# Altium footprint library ModdedTSPartFootprints.PcbLib: 30 footprints (part 2 of 2)
Each footprint in its own frame and in the unit in brackets; x right, y up, seen from the top. Pads: shape width x height; smd on the part's side, far side on the other; paste and mask are expansions set on the pad; w line width, h text height; cw(c..) or ccw(c..) is an arc to the next point about the centre after c.
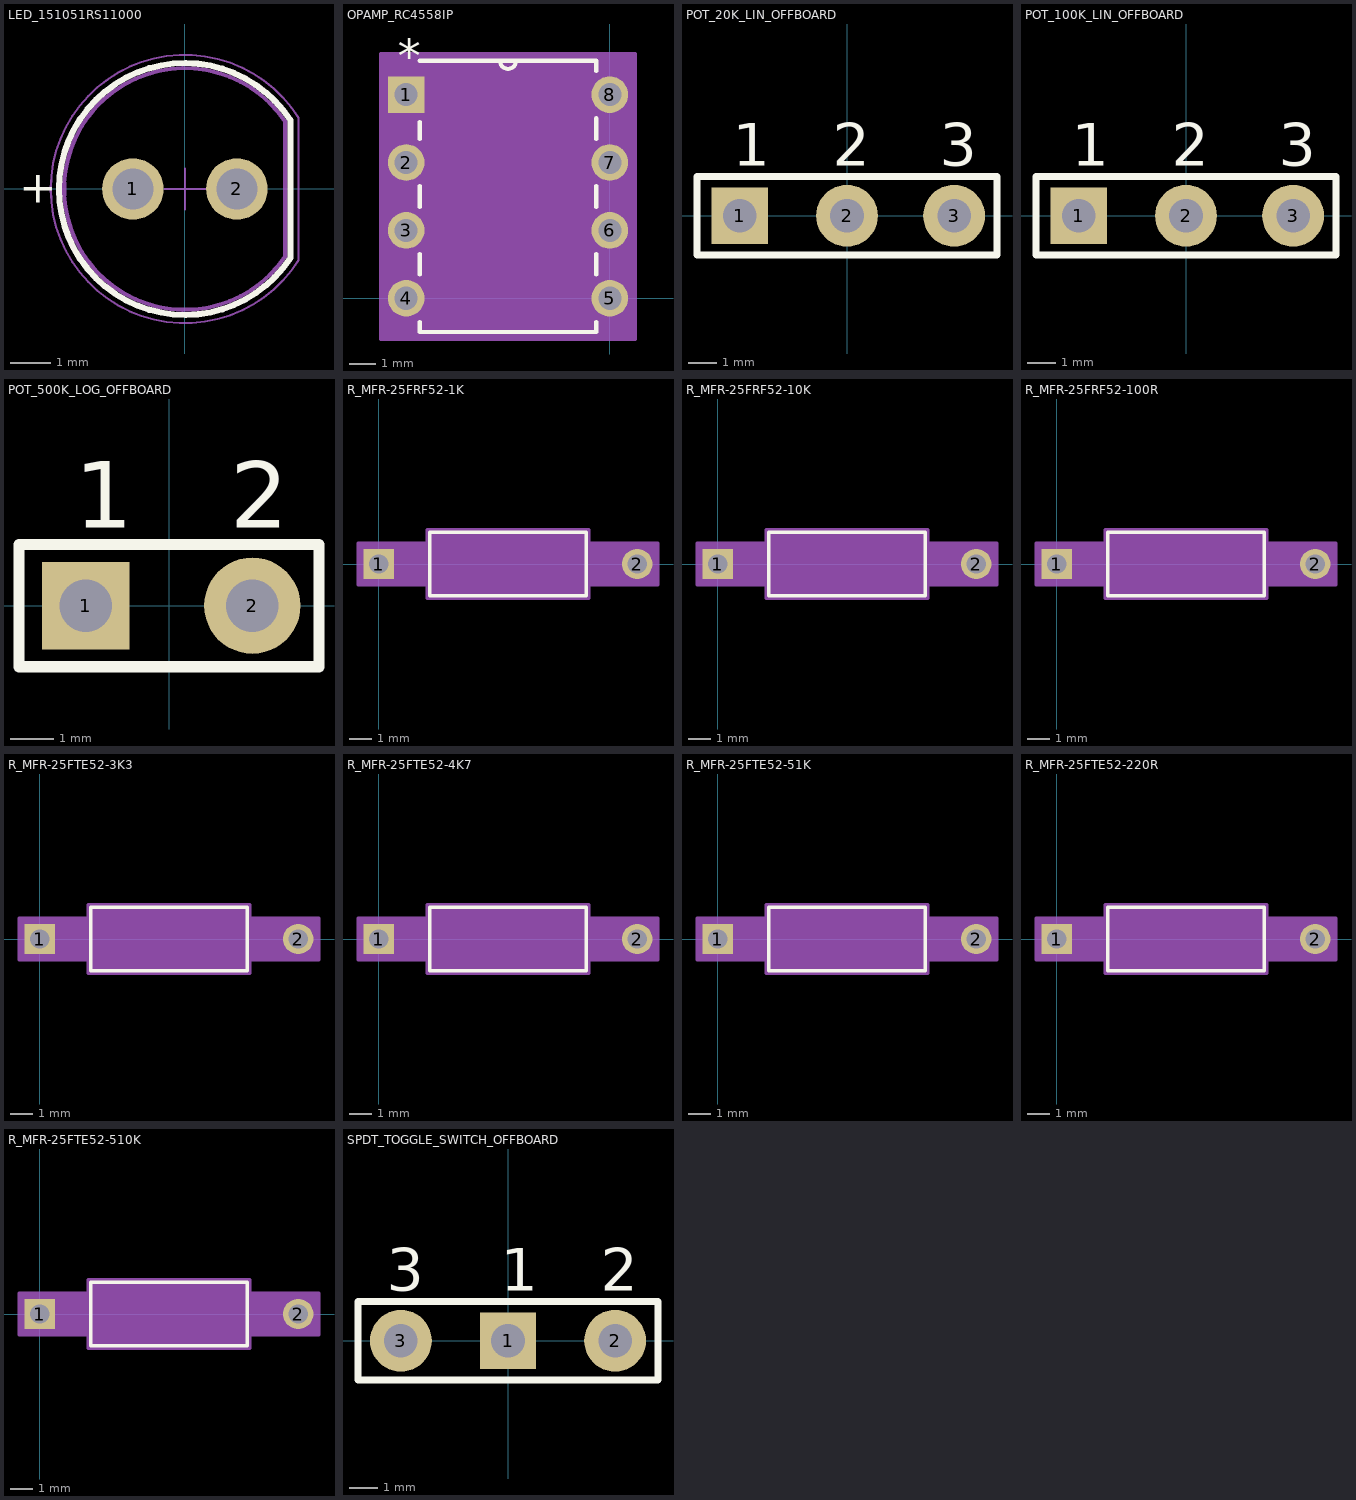
[diagram p1: the footprints below, top view; thin cyan lines are the x and y axes]

## LED_151051RS11000 [mm] "Red 645nm LED Indication - Discrete 2.1V Radial"
height 8.7
pads (2):
  round 1.5 hole 1: 1(-1.27,0) 2(1.27,0)
Top Overlay:
  lines w0.15: 2.575,-1.681 cw(c0,0) 2.575,1.681 2.575,-1.681
  text "+" at -4.05,-0.33 h0.8
Top Courtyard:
  lines w0.05: -0.5,0 0.5,0 ; 0,-0.5 0,0.5 ; 2.775,-1.74 cw(c0,0) 2.775,1.74 2.775,-1.74
Top Designator:
  text ".Designator" at -7.498,-0.5 h1.5
Top Component Outline:
  lines w0.1: 2.449,-1.644 cw(c0,0) 2.449,1.645 ; 2.45,-1.645 2.45,1.645
3D body "STEP-WL-TMRC-5mm-wos-rev1.stp": height 9.2, standoff -25.9, extent -2.95,-2.949 2.45,2.95

## OPAMP_RC4558IP [mil] "Standard (General Purpose) Amplifier 2 Circuit Differential 8-PDIP"
pads (8):
  rect 54x54 / inner round 60 / far side rect 54x54 hole 34 paste-99999 mask-27: 1(-300,300)
  round 54 / inner round 60 / far side round 54 hole 34 paste-99999 mask-27: 2(-300,200) 3(-300,100) 4(-300,0) 5(0,0) 6(0,100) 7(0,200) 8(0,300)
Top Overlay:
  lines w6: -280,-34.76 -280,-50 -20,-50 -20,-34.76 ; -280,34.76 -280,65.24 ; -280,134.76 -280,165.24 ; -280,234.76 -280,259.9 ; -280,350 -20,350 -20,334.76 ; -162,350 ccw(c-150,350) -138,350 ; -20,34.76 -20,65.24 ; -20,134.76 -20,165.24 ; -20,234.76 -20,265.24
  text ".Designator" at -237.5,125 h50
  text "*" at -312.5,332 h50
Mechanical 13:
  lines w0: -162,350 ccw(c-150,350) -138,350
  lines w1: -317,-17 -280,-17 -280,17 -317,17 -317,-17 ; -317,83 -280,83 -280,117 -317,117 -317,83 ; -317,183 -280,183 -280,217 -317,217 -317,183 ; -317,283 -280,283 -280,317 -317,317 -317,283 ; -280,-50 -280,350 -20,350 -20,-50 -280,-50 ; -20,-17 17,-17 17,17 -20,17 -20,-17 ; -20,83 17,83 17,117 -20,117 -20,83 ; -20,183 17,183 17,217 -20,217 -20,183 ; -20,283 17,283 17,317 -20,317 -20,283
  text "*" at -312.5,332 h50
Mechanical 15:
  region: 37,-60 -337,-60 -337,360 37,360
  lines w6: -337,-60 -337,360 37,360 37,-60 -337,-60
3D body "P8.step": height 205.12, standoff -100, extent -310,-50 10,350

## POT_20K_LIN_OFFBOARD [mm] "Through holes for wires to B20K, 16mm Potentiometers - 18T Knurled Shaft - Solder Lug"
pads (3):
  rect 2x2 hole 1.2: 1(-3.81,0)
  round 2.2 hole 1.2: 2(0,0) 3(3.81,0)
Top Overlay:
  lines w0.254: -5.334,-1.397 5.334,-1.397 5.334,1.397 -5.334,1.397 -5.334,-1.397
  text "1" at -4.064,1.778 h1.52
  text ".Designator" at -1.843,-1.651 h1.27
  text "2" at -0.508,1.778 h1.52
  text "3" at 3.302,1.778 h1.52

## POT_100K_LIN_OFFBOARD [mm] "Through holes for wires to B100K, 16mm Potentiometers - 18T Knurled Shaft - Solder Lug"
pads (3):
  rect 2x2 hole 1.2: 1(-3.81,0)
  round 2.2 hole 1.2: 2(0,0) 3(3.81,0)
Top Overlay:
  lines w0.254: -5.334,-1.397 -5.334,1.397 5.334,1.397 5.334,-1.397 -5.334,-1.397
  text "3" at 3.302,1.778 h1.52
  text "2" at -0.508,1.778 h1.52
  text ".Designator" at -1.843,-1.651 h1.27
  text "1" at -4.064,1.778 h1.52

## POT_500K_LOG_OFFBOARD [mm] "Through holes for wires to A500K, 16mm Potentiometers - 18T Knurled Shaft - Solder Lug"
pads (2):
  rect 2x2 hole 1.2: 1(-1.905,0)
  round 2.2 hole 1.2: 2(1.905,0)
Top Overlay:
  lines w0.254: -3.429,-1.397 -3.429,1.397 3.429,1.397 3.429,-1.397 -3.429,-1.397
  text "2" at 1.397,1.778 h1.52
  text ".Designator" at -1.843,-1.651 h1.27
  text "1" at -2.159,1.778 h1.52

## R_MFR-25FRF52-1K [mil] "1 kOhms ±1% 0.25W, 1/4W Through Hole Resistor Axial Metal Film"
pads (2):
  rect 54x54 / inner round 60 / far side rect 54x54 hole 34 paste-99999 mask+0: 1(0,0)
  round 54 / inner round 60 / far side round 54 hole 34 paste-99999 mask+0: 2(460,0)
Top Overlay:
  lines w6: 91,-56.5 369,-56.5 369,56.5 91,56.5 91,-56.5
  text ".Designator" at 155,-25 h50
Mechanical 13:
  lines w1: 0,0 96,0 ; 364,0 460,0 ; 96,-51.5 364,-51.5 364,51.5 96,51.5 96,-51.5
Mechanical 15:
  region: 86,-37 -37,-37 -37,37 86,37 86,61.5 374,61.5 374,37 497,37 497,-37 374,-37 374,-61.5 86,-61.5
  lines w6: -37,-37 -37,37 86,37 86,61.5 374,61.5 374,37 497,37 497,-37 374,-37 374,-61.5 86,-61.5 86,-37 -37,-37
3D body "YAG_MF25_YAG.step": height 103, standoff -110, extent -12.01,-51.12 472.01,51.12

## R_MFR-25FRF52-10K [mil] "10 kOhms ±1% 0.25W, 1/4W Through Hole Resistor Axial Metal Film"
pads (2):
  rect 54x54 / inner round 60 / far side rect 54x54 hole 34 paste-99999 mask+0: 1(0,0)
  round 54 / inner round 60 / far side round 54 hole 34 paste-99999 mask+0: 2(460,0)
Top Overlay:
  lines w6: 91,-56.5 91,56.5 369,56.5 369,-56.5 91,-56.5
  text ".Designator" at 155,-25 h50
Mechanical 13:
  lines w1: 0,0 96,0 ; 364,0 460,0 ; 96,-51.5 96,51.5 364,51.5 364,-51.5 96,-51.5
Mechanical 15:
  region: 86,-37 -37,-37 -37,37 86,37 86,61.5 374,61.5 374,37 497,37 497,-37 374,-37 374,-61.5 86,-61.5
  lines w6: -37,-37 86,-37 86,-61.5 374,-61.5 374,-37 497,-37 497,37 374,37 374,61.5 86,61.5 86,37 -37,37 -37,-37
3D body "YAG_MF25_YAG.step": height 103, standoff -110, extent -12.01,-51.12 472.01,51.12

## R_MFR-25FRF52-100R [mil] "100 Ohms ±1% 0.25W, 1/4W Through Hole Resistor Axial Metal Film"
pads (2):
  rect 54x54 / inner round 60 / far side rect 54x54 hole 34 paste-99999 mask+0: 1(0,0)
  round 54 / inner round 60 / far side round 54 hole 34 paste-99999 mask+0: 2(460,0)
Top Overlay:
  lines w6: 91,-56.5 91,56.5 369,56.5 369,-56.5 91,-56.5
  text ".Designator" at 155,-25 h50
Mechanical 13:
  lines w1: 0,0 96,0 ; 364,0 460,0 ; 96,-51.5 96,51.5 364,51.5 364,-51.5 96,-51.5
Mechanical 15:
  region: 86,-37 -37,-37 -37,37 86,37 86,61.5 374,61.5 374,37 497,37 497,-37 374,-37 374,-61.5 86,-61.5
  lines w6: -37,-37 86,-37 86,-61.5 374,-61.5 374,-37 497,-37 497,37 374,37 374,61.5 86,61.5 86,37 -37,37 -37,-37
3D body "YAG_MF25_YAG.step": height 103, standoff -110, extent -12.01,-51.12 472.01,51.12

## R_MFR-25FTE52-3K3 [mil] "3.3 kOhms ±1% 0.25W, 1/4W Through Hole Resistor Axial Metal Film"
pads (2):
  rect 54x54 / inner round 60 / far side rect 54x54 hole 34 paste-99999 mask+0: 1(0,0)
  round 54 / inner round 60 / far side round 54 hole 34 paste-99999 mask+0: 2(460,0)
Top Overlay:
  lines w6: 91,-56.5 91,56.5 369,56.5 369,-56.5 91,-56.5
  text ".Designator" at 155,-25 h50
Mechanical 13:
  lines w1: 0,0 96,0 ; 364,0 460,0 ; 96,-51.5 96,51.5 364,51.5 364,-51.5 96,-51.5
Mechanical 15:
  region: 86,-37 -37,-37 -37,37 86,37 86,61.5 374,61.5 374,37 497,37 497,-37 374,-37 374,-61.5 86,-61.5
  lines w6: -37,-37 86,-37 86,-61.5 374,-61.5 374,-37 497,-37 497,37 374,37 374,61.5 86,61.5 86,37 -37,37 -37,-37
3D body "YAG_MF25_YAG.step": height 103, standoff -110, extent -12.01,-51.12 472.01,51.12

## R_MFR-25FTE52-4K7 [mil] "4.7 kOhms ±1% 0.25W, 1/4W Through Hole Resistor Axial Metal Film"
pads (2):
  rect 54x54 / inner round 60 / far side rect 54x54 hole 34 paste-99999 mask+0: 1(0,0)
  round 54 / inner round 60 / far side round 54 hole 34 paste-99999 mask+0: 2(460,0)
Top Overlay:
  lines w6: 91,-56.5 91,56.5 369,56.5 369,-56.5 91,-56.5
  text ".Designator" at 155,-25 h50
Mechanical 13:
  lines w1: 0,0 96,0 ; 364,0 460,0 ; 96,-51.5 96,51.5 364,51.5 364,-51.5 96,-51.5
Mechanical 15:
  region: 86,-37 -37,-37 -37,37 86,37 86,61.5 374,61.5 374,37 497,37 497,-37 374,-37 374,-61.5 86,-61.5
  lines w6: -37,-37 86,-37 86,-61.5 374,-61.5 374,-37 497,-37 497,37 374,37 374,61.5 86,61.5 86,37 -37,37 -37,-37
3D body "YAG_MF25_YAG.step": height 103, standoff -110, extent -12.01,-51.12 472.01,51.12

## R_MFR-25FTE52-51K [mil] "51 kOhms ±1% 0.25W, 1/4W Through Hole Resistor Axial Metal Film"
pads (2):
  rect 54x54 / inner round 60 / far side rect 54x54 hole 34 paste-99999 mask+0: 1(0,0)
  round 54 / inner round 60 / far side round 54 hole 34 paste-99999 mask+0: 2(460,0)
Top Overlay:
  lines w6: 91,-56.5 369,-56.5 369,56.5 91,56.5 91,-56.5
  text ".Designator" at 155,-25 h50
Mechanical 13:
  lines w1: 0,0 96,0 ; 364,0 460,0 ; 96,-51.5 364,-51.5 364,51.5 96,51.5 96,-51.5
Mechanical 15:
  region: 86,-37 -37,-37 -37,37 86,37 86,61.5 374,61.5 374,37 497,37 497,-37 374,-37 374,-61.5 86,-61.5
  lines w6: -37,-37 -37,37 86,37 86,61.5 374,61.5 374,37 497,37 497,-37 374,-37 374,-61.5 86,-61.5 86,-37 -37,-37
3D body "YAG_MF25_YAG.step": height 103, standoff -110, extent -12.01,-51.12 472.01,51.12

## R_MFR-25FTE52-220R [mil] "220 Ohms ±1% 0.25W, 1/4W Through Hole Resistor Axial Metal Film"
pads (2):
  rect 54x54 / inner round 60 / far side rect 54x54 hole 34 paste-99999 mask+0: 1(0,0)
  round 54 / inner round 60 / far side round 54 hole 34 paste-99999 mask+0: 2(460,0)
Top Overlay:
  lines w6: 91,-56.5 369,-56.5 369,56.5 91,56.5 91,-56.5
  text ".Designator" at 155,-25 h50
Mechanical 13:
  lines w1: 0,0 96,0 ; 364,0 460,0 ; 96,-51.5 364,-51.5 364,51.5 96,51.5 96,-51.5
Mechanical 15:
  region: 86,-37 -37,-37 -37,37 86,37 86,61.5 374,61.5 374,37 497,37 497,-37 374,-37 374,-61.5 86,-61.5
  lines w6: -37,-37 -37,37 86,37 86,61.5 374,61.5 374,37 497,37 497,-37 374,-37 374,-61.5 86,-61.5 86,-37 -37,-37
3D body "YAG_MF25_YAG.step": height 103, standoff -110, extent -12.01,-51.12 472.01,51.12

## R_MFR-25FTE52-510K [mil] "510 kOhms ±1% 0.25W, 1/4W Through Hole Resistor Axial Metal Film"
pads (2):
  rect 54x54 / inner round 60 / far side rect 54x54 hole 34 paste-99999 mask+0: 1(0,0)
  round 54 / inner round 60 / far side round 54 hole 34 paste-99999 mask+0: 2(460,0)
Top Overlay:
  lines w6: 91,-56.5 91,56.5 369,56.5 369,-56.5 91,-56.5
  text ".Designator" at 155,-25 h50
Mechanical 13:
  lines w1: 0,0 96,0 ; 364,0 460,0 ; 96,-51.5 96,51.5 364,51.5 364,-51.5 96,-51.5
Mechanical 15:
  region: 86,-37 -37,-37 -37,37 86,37 86,61.5 374,61.5 374,37 497,37 497,-37 374,-37 374,-61.5 86,-61.5
  lines w6: -37,-37 86,-37 86,-61.5 374,-61.5 374,-37 497,-37 497,37 374,37 374,61.5 86,61.5 86,37 -37,37 -37,-37
3D body "YAG_MF25_YAG.step": height 103, standoff -110, extent -12.01,-51.12 472.01,51.12

## SPDT_TOGGLE_SWITCH_OFFBOARD [mm] "Through holes for wires to a Toggle Switch SPDT Panel Mount"
pads (3):
  rect 2x2 hole 1.2: 1(0,0)
  round 2.2 hole 1.2: 2(3.81,0) 3(-3.81,0)
Top Overlay:
  lines w0.254: -5.334,-1.397 5.334,-1.397 5.334,1.397 -5.334,1.397 -5.334,-1.397
  text "1" at -0.254,1.778 h1.52
  text ".Designator" at -1.843,-1.651 h1.27
  text "2" at 3.302,1.778 h1.52
  text "3" at -4.318,1.778 h1.52